# Altium footprint library BM14B-GHS-TBT(LF)(SN)(N).PcbLib: 1 footprints
Each footprint in its own frame and in the unit in brackets; x right, y up, seen from the top. Pads: shape width x height; smd on the part's side, far side on the other; paste and mask are expansions set on the pad; w line width, h text height; cw(c..) or ccw(c..) is an arc to the next point about the centre after c.
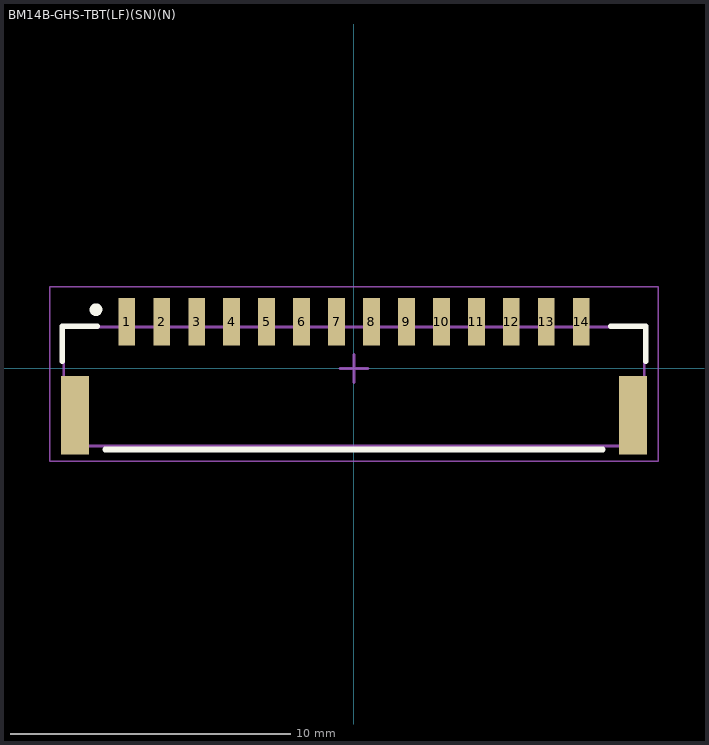
[diagram p0: the footprint, top view; thin cyan lines are the x and y axes]

## BM14B-GHS-TBT(LF)(SN)(N) [mm]
pads (16):
  rect 0.6x1.7 smd: 1(-8.125,1.675) 2(-6.875,1.675) 3(-5.625,1.675) 4(-4.375,1.675) 5(-3.125,1.675) 6(-1.875,1.675) 7(-0.625,1.675) 8(0.625,1.675) 9(1.875,1.675) 10(3.125,1.675) 11(4.375,1.675) 12(5.625,1.675) 13(6.875,1.675) 14(8.125,1.675)
  rect 1x2.8 smd: ""(-9.975,-1.675) ""(9.975,-1.675)
Top Overlay:
  circle w0.254: c-9.225,2.1 r0.1
  lines w0.2: -10.425,0.25 -10.425,1.5 -9.175,1.5 ; -8.9,-2.9 8.9,-2.9 ; 9.175,1.5 10.425,1.5 10.425,0.25
Mechanical 1:
  lines w0.1: -10.375,-2.775 -10.375,1.475 10.375,1.475 10.375,-2.775 -10.375,-2.775
  text ".Designator" at -3.374,-1.308 h0.65
Mechanical 2:
  lines w0.05: -10.875,-3.325 -10.875,2.925 10.875,2.925 10.875,-3.325 -10.875,-3.325
  lines w0.1: -0.5,0 0.5,0 ; 0,-0.5 0,0.5
3D body "BM14B-GHS-TBT.STEP": height 4.18, standoff -0.03, extent -10.375,-2.775 10.375,2.175